# Altium footprint library analog-devices.PCBLIB: 79 footprints (part 4 of 6)
Each footprint in its own frame and in the unit in brackets; x right, y up, seen from the top. Pads: shape width x height; smd on the part's side, far side on the other; paste and mask are expansions set on the pad; w line width, h text height; cw(c..) or ccw(c..) is an arc to the next point about the centre after c.
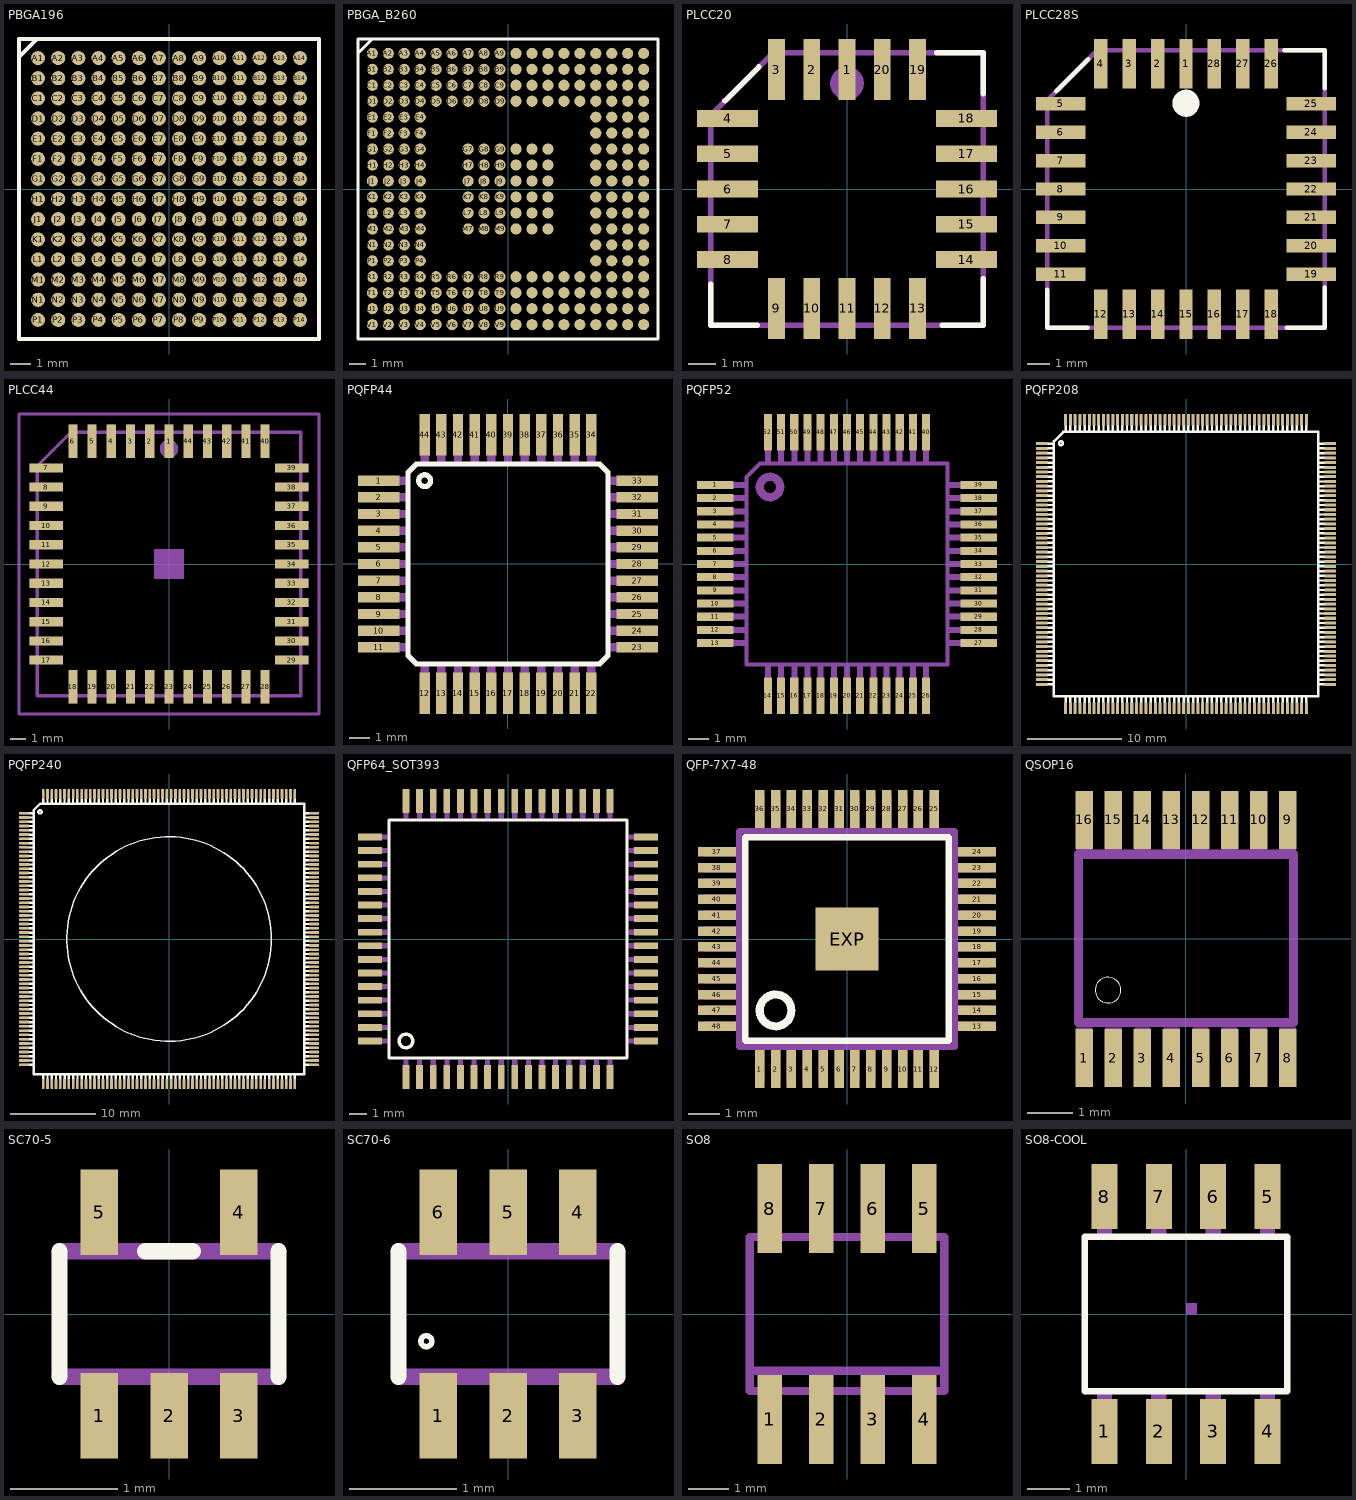
[diagram p3: the footprints below, top view; thin cyan lines are the x and y axes]

## PBGA196 [mm]
pads (196):
  rrect100% 0.7x0.7 smd: A1(-6.5,6.5) A2(-5.5,6.5) A3(-4.5,6.5) A4(-3.5,6.5) A5(-2.5,6.5) A6(-1.5,6.5) A7(-0.5,6.5) A8(0.5,6.5) A9(1.5,6.5) A10(2.5,6.5) A11(3.5,6.5) A12(4.5,6.5) A13(5.5,6.5) A14(6.5,6.5) B1(-6.5,5.5) B2(-5.5,5.5) B3(-4.5,5.5) B4(-3.5,5.5) B5(-2.5,5.5) B6(-1.5,5.5) B7(-0.5,5.5) B8(0.5,5.5) B9(1.5,5.5) B10(2.5,5.5) B11(3.5,5.5) B12(4.5,5.5) B13(5.5,5.5) B14(6.5,5.5) C1(-6.5,4.5) C2(-5.5,4.5) C3(-4.5,4.5) C4(-3.5,4.5) C5(-2.5,4.5) C6(-1.5,4.5) C7(-0.5,4.5) C8(0.5,4.5) C9(1.5,4.5) C10(2.5,4.5) C11(3.5,4.5) C12(4.5,4.5) C13(5.5,4.5) C14(6.5,4.5) D1(-6.5,3.5) D2(-5.5,3.5) D3(-4.5,3.5) D4(-3.5,3.5) D5(-2.5,3.5) D6(-1.5,3.5) D7(-0.5,3.5) D8(0.5,3.5) D9(1.5,3.5) D10(2.5,3.5) D11(3.5,3.5) D12(4.5,3.5) D13(5.5,3.5) D14(6.5,3.5) E1(-6.5,2.5) E2(-5.5,2.5) E3(-4.5,2.5) E4(-3.5,2.5) E5(-2.5,2.5) E6(-1.5,2.5) E7(-0.5,2.5) E8(0.5,2.5) E9(1.5,2.5) E10(2.5,2.5) E11(3.5,2.5) E12(4.5,2.5) E13(5.5,2.5) E14(6.5,2.5) F1(-6.5,1.5) F2(-5.5,1.5) F3(-4.5,1.5) F4(-3.5,1.5) F5(-2.5,1.5) F6(-1.5,1.5) F7(-0.5,1.5) F8(0.5,1.5) F9(1.5,1.5) F10(2.5,1.5) F11(3.5,1.5) F12(4.5,1.5) F13(5.5,1.5) F14(6.5,1.5) G1(-6.5,0.5) G2(-5.5,0.5) G3(-4.5,0.5) G4(-3.5,0.5) G5(-2.5,0.5) G6(-1.5,0.5) G7(-0.5,0.5) G8(0.5,0.5) G9(1.5,0.5) G10(2.5,0.5) G11(3.5,0.5) G12(4.5,0.5) G13(5.5,0.5) G14(6.5,0.5) H1(-6.5,-0.5) H2(-5.5,-0.5) H3(-4.5,-0.5) H4(-3.5,-0.5) H5(-2.5,-0.5) H6(-1.5,-0.5) H7(-0.5,-0.5) H8(0.5,-0.5) H9(1.5,-0.5) H10(2.5,-0.5) H11(3.5,-0.5) H12(4.5,-0.5) H13(5.5,-0.5) H14(6.5,-0.5) J1(-6.5,-1.5) J2(-5.5,-1.5) J3(-4.5,-1.5) J4(-3.5,-1.5) J5(-2.5,-1.5) J6(-1.5,-1.5) J7(-0.5,-1.5) J8(0.5,-1.5) J9(1.5,-1.5) J10(2.5,-1.5) J11(3.5,-1.5) J12(4.5,-1.5) J13(5.5,-1.5) J14(6.5,-1.5) K1(-6.5,-2.5) K2(-5.5,-2.5) K3(-4.5,-2.5) K4(-3.5,-2.5) K5(-2.5,-2.5) K6(-1.5,-2.5) K7(-0.5,-2.5) K8(0.5,-2.5) K9(1.5,-2.5) K10(2.5,-2.5) K11(3.5,-2.5) K12(4.5,-2.5) K13(5.5,-2.5) K14(6.5,-2.5) L1(-6.5,-3.5) L2(-5.5,-3.5) L3(-4.5,-3.5) L4(-3.5,-3.5) L5(-2.5,-3.5) L6(-1.5,-3.5) L7(-0.5,-3.5) L8(0.5,-3.5) L9(1.5,-3.5) L10(2.5,-3.5) L11(3.5,-3.5) L12(4.5,-3.5) L13(5.5,-3.5) L14(6.5,-3.5) M1(-6.5,-4.5) M2(-5.5,-4.5) M3(-4.5,-4.5) M4(-3.5,-4.5) M5(-2.5,-4.5) M6(-1.5,-4.5) M7(-0.5,-4.5) M8(0.5,-4.5) M9(1.5,-4.5) M10(2.5,-4.5) M11(3.5,-4.5) M12(4.5,-4.5) M13(5.5,-4.5) M14(6.5,-4.5) N1(-6.5,-5.5) N2(-5.5,-5.5) N3(-4.5,-5.5) N4(-3.5,-5.5) N5(-2.5,-5.5) N6(-1.5,-5.5) N7(-0.5,-5.5) N8(0.5,-5.5) N9(1.5,-5.5) N10(2.5,-5.5) N11(3.5,-5.5) N12(4.5,-5.5) N13(5.5,-5.5) N14(6.5,-5.5) P1(-6.5,-6.5) P2(-5.5,-6.5) P3(-4.5,-6.5) P4(-3.5,-6.5) P5(-2.5,-6.5) P6(-1.5,-6.5) P7(-0.5,-6.5) P8(0.5,-6.5) P9(1.5,-6.5) P10(2.5,-6.5) P11(3.5,-6.5) P12(4.5,-6.5) P13(5.5,-6.5) P14(6.5,-6.5)
Top Overlay:
  lines w0.203: -7.448,6.55 -7.448,7.448 -6.55,7.448 ; -7.448,6.55 -7.448,-7.448 7.448,-7.448 7.448,7.448 -6.55,7.448 ; -7.448,6.55 -6.55,7.448
Top Solder:
  drawing of 196 lines, arcs and shapes, not listed

## PBGA_B260 [mm]
pads (260):
  rrect100% 0.7x0.7 smd: A1(-8.5,8.5) A2(-7.5,8.5) A3(-6.5,8.5) A4(-5.5,8.5) A5(-4.5,8.5) A6(-3.5,8.5) A7(-2.5,8.5) A8(-1.5,8.5) A9(-0.5,8.5) A10(0.5,8.5) A11(1.5,8.5) A12(2.5,8.5) A13(3.5,8.5) A14(4.5,8.5) A15(5.5,8.5) A16(6.5,8.5) A17(7.5,8.5) A18(8.5,8.5) B1(-8.5,7.5) B2(-7.5,7.5) B3(-6.5,7.5) B4(-5.5,7.5) B5(-4.5,7.5) B6(-3.5,7.5) B7(-2.5,7.5) B8(-1.5,7.5) B9(-0.5,7.5) B10(0.5,7.5) B11(1.5,7.5) B12(2.5,7.5) B13(3.5,7.5) B14(4.5,7.5) B15(5.5,7.5) B16(6.5,7.5) B17(7.5,7.5) B18(8.5,7.5) C1(-8.5,6.5) C2(-7.5,6.5) C3(-6.5,6.5) C4(-5.5,6.5) C5(-4.5,6.5) C6(-3.5,6.5) C7(-2.5,6.5) C8(-1.5,6.5) C9(-0.5,6.5) C10(0.5,6.5) C11(1.5,6.5) C12(2.5,6.5) C13(3.5,6.5) C14(4.5,6.5) C15(5.5,6.5) C16(6.5,6.5) C17(7.5,6.5) C18(8.5,6.5) D1(-8.5,5.5) D2(-7.5,5.5) D3(-6.5,5.5) D4(-5.5,5.5) D5(-4.5,5.5) D6(-3.5,5.5) D7(-2.5,5.5) D8(-1.5,5.5) D9(-0.5,5.5) D10(0.5,5.5) D11(1.5,5.5) D12(2.5,5.5) D13(3.5,5.5) D14(4.5,5.5) D15(5.5,5.5) D16(6.5,5.5) D17(7.5,5.5) D18(8.5,5.5) E1(-8.5,4.5) E2(-7.5,4.5) E3(-6.5,4.5) E4(-5.5,4.5) E15(5.5,4.5) E16(6.5,4.5) E17(7.5,4.5) E18(8.5,4.5) F1(-8.5,3.5) F2(-7.5,3.5) F3(-6.5,3.5) F4(-5.5,3.5) F15(5.5,3.5) F16(6.5,3.5) F17(7.5,3.5) F18(8.5,3.5) G1(-8.5,2.5) G2(-7.5,2.5) G3(-6.5,2.5) G4(-5.5,2.5) G7(-2.5,2.5) G8(-1.5,2.5) G9(-0.5,2.5) G10(0.5,2.5) G11(1.5,2.5) G12(2.5,2.5) G15(5.5,2.5) G16(6.5,2.5) G17(7.5,2.5) G18(8.5,2.5) H1(-8.5,1.5) H2(-7.5,1.5) H3(-6.5,1.5) H4(-5.5,1.5) H7(-2.5,1.5) H8(-1.5,1.5) H9(-0.5,1.5) H10(0.5,1.5) H11(1.5,1.5) H12(2.5,1.5) H15(5.5,1.5) H16(6.5,1.5) H17(7.5,1.5) H18(8.5,1.5) J1(-8.5,0.5) J2(-7.5,0.5) J3(-6.5,0.5) J4(-5.5,0.5) J7(-2.5,0.5) J8(-1.5,0.5) J9(-0.5,0.5) J10(0.5,0.5) J11(1.5,0.5) J12(2.5,0.5) J15(5.5,0.5) J16(6.5,0.5) J17(7.5,0.5) J18(8.5,0.5) K1(-8.5,-0.5) K2(-7.5,-0.5) K3(-6.5,-0.5) K4(-5.5,-0.5) K7(-2.5,-0.5) K8(-1.5,-0.5) K9(-0.5,-0.5) K10(0.5,-0.5) K11(1.5,-0.5) K12(2.5,-0.5) K15(5.5,-0.5) K16(6.5,-0.5) K17(7.5,-0.5) K18(8.5,-0.5) L1(-8.5,-1.5) L2(-7.5,-1.5) L3(-6.5,-1.5) L4(-5.5,-1.5) L7(-2.5,-1.5) L8(-1.5,-1.5) L9(-0.5,-1.5) L10(0.5,-1.5) L11(1.5,-1.5) L12(2.5,-1.5) L15(5.5,-1.5) L16(6.5,-1.5) L17(7.5,-1.5) L18(8.5,-1.5) M1(-8.5,-2.5) M2(-7.5,-2.5) M3(-6.5,-2.5) M4(-5.5,-2.5) M7(-2.5,-2.5) M8(-1.5,-2.5) M9(-0.5,-2.5) M10(0.5,-2.5) M11(1.5,-2.5) M12(2.5,-2.5) M15(5.5,-2.5) M16(6.5,-2.5) M17(7.5,-2.5) M18(8.5,-2.5) N1(-8.5,-3.5) N2(-7.5,-3.5) N3(-6.5,-3.5) N4(-5.5,-3.5) N15(5.5,-3.5) N16(6.5,-3.5) N17(7.5,-3.5) N18(8.5,-3.5) P1(-8.5,-4.5) P2(-7.5,-4.5) P3(-6.5,-4.5) P4(-5.5,-4.5) P15(5.5,-4.5) P16(6.5,-4.5) P17(7.5,-4.5) P18(8.5,-4.5) R1(-8.5,-5.5) R2(-7.5,-5.5) R3(-6.5,-5.5) R4(-5.5,-5.5) R5(-4.5,-5.5) R6(-3.5,-5.5) R7(-2.5,-5.5) R8(-1.5,-5.5) R9(-0.5,-5.5) R10(0.5,-5.5) R11(1.5,-5.5) R12(2.5,-5.5) R13(3.5,-5.5) R14(4.5,-5.5) R15(5.5,-5.5) R16(6.5,-5.5) R17(7.5,-5.5) R18(8.5,-5.5) T1(-8.5,-6.5) T2(-7.5,-6.5) T3(-6.5,-6.5) T4(-5.5,-6.5) T5(-4.5,-6.5) T6(-3.5,-6.5) T7(-2.5,-6.5) T8(-1.5,-6.5) T9(-0.5,-6.5) T10(0.5,-6.5) T11(1.5,-6.5) T12(2.5,-6.5) T13(3.5,-6.5) T14(4.5,-6.5) T15(5.5,-6.5) T16(6.5,-6.5) T17(7.5,-6.5) T18(8.5,-6.5) U1(-8.5,-7.5) U2(-7.5,-7.5) U3(-6.5,-7.5) U4(-5.5,-7.5) U5(-4.5,-7.5) U6(-3.5,-7.5) U7(-2.5,-7.5) U8(-1.5,-7.5) U9(-0.5,-7.5) U10(0.5,-7.5) U11(1.5,-7.5) U12(2.5,-7.5) U13(3.5,-7.5) U14(4.5,-7.5) U15(5.5,-7.5) U16(6.5,-7.5) U17(7.5,-7.5) U18(8.5,-7.5) V1(-8.5,-8.5) V2(-7.5,-8.5) V3(-6.5,-8.5) V4(-5.5,-8.5) V5(-4.5,-8.5) V6(-3.5,-8.5) V7(-2.5,-8.5) V8(-1.5,-8.5) V9(-0.5,-8.5) V10(0.5,-8.5) V11(1.5,-8.5) V12(2.5,-8.5) V13(3.5,-8.5) V14(4.5,-8.5) V15(5.5,-8.5) V16(6.5,-8.5) V17(7.5,-8.5) V18(8.5,-8.5)
Top Overlay:
  lines w0.203: -9.399,8.5 -9.399,9.399 -8.5,9.399 ; -9.399,8.5 -9.399,-9.399 9.399,-9.399 9.399,9.399 -8.5,9.399 ; -9.399,8.5 -8.5,9.399
Top Solder:
  drawing of 260 lines, arcs and shapes, not listed

## PLCC20 [mm]
pads (20):
  rect 0.6x2.2 smd: 1(0,4.3) 2(-1.27,4.3) 3(-2.54,4.3) 9(-2.54,-4.3) 10(-1.27,-4.3) 11(0,-4.3) 12(1.27,-4.3) 13(2.54,-4.3) 19(2.54,4.3) 20(1.27,4.3)
  rect 2.2x0.6 smd: 4(-4.3,2.54) 5(-4.3,1.27) 6(-4.3,0) 7(-4.3,-1.27) 8(-4.3,-2.54) 14(4.3,-2.54) 15(4.3,-1.27) 16(4.3,0) 17(4.3,1.27) 18(4.3,2.54)
Top Overlay:
  lines w0.203: -4.9,-3.431 -4.9,-4.9 -3.228,-4.9 ; -4.392,3.173 -3.173,4.392 ; 3.228,4.9 4.9,4.9 4.9,3.431 ; 3.431,-4.9 4.9,-4.9 4.9,-3.228
Mechanical 16:
  circle w0.61: c0,3.8 r0.3
  rectangle: -0.26,4.95 0.26,5.4
  rectangle: -1.53,4.95 -1.01,5.4
  rectangle: -2.8,4.95 -2.28,5.4
  rectangle: -5.4,2.28 -4.95,2.8
  rectangle: -5.4,1.01 -4.95,1.53
  rectangle: -5.4,-0.26 -4.95,0.26
  rectangle: -5.4,-1.53 -4.95,-1.01
  rectangle: -5.4,-2.8 -4.95,-2.28
  rectangle: -2.8,-5.4 -2.28,-4.95
  rectangle: -1.53,-5.4 -1.01,-4.95
  rectangle: -0.26,-5.4 0.26,-4.95
  rectangle: 1.01,-5.4 1.53,-4.95
  rectangle: 2.28,-5.4 2.8,-4.95
  rectangle: 4.95,-2.8 5.4,-2.28
  rectangle: 4.95,-1.53 5.4,-1.01
  rectangle: 4.95,-0.26 5.4,0.26
  rectangle: 4.95,1.01 5.4,1.53
  rectangle: 4.95,2.28 5.4,2.8
  rectangle: 2.28,4.95 2.8,5.4
  rectangle: 1.01,4.95 1.53,5.4
  lines w0.203: -4.9,-4.9 -4.9,2.665 -2.665,4.9 4.9,4.9 4.9,-4.9 -4.9,-4.9

## PLCC28S [mm]
pads (28):
  rect 0.6x2.2 smd: 1(0,5.6) 2(-1.27,5.6) 3(-2.54,5.6) 4(-3.81,5.6) 12(-3.81,-5.6) 13(-2.54,-5.6) 14(-1.27,-5.6) 15(0,-5.6) 16(1.27,-5.6) 17(2.54,-5.6) 18(3.81,-5.6) 26(3.81,5.6) 27(2.54,5.6) 28(1.27,5.6)
  rect 2.2x0.6 smd: 5(-5.6,3.81) 6(-5.6,2.54) 7(-5.6,1.27) 8(-5.6,0) 9(-5.6,-1.27) 10(-5.6,-2.54) 11(-5.6,-3.81) 19(5.6,-3.81) 20(5.6,-2.54) 21(5.6,-1.27) 22(5.6,0) 23(5.6,1.27) 24(5.6,2.54) 25(5.6,3.81)
Top Overlay:
  circle w0.61: c0,3.83 r0.3
  lines w0.203: -6.2,-4.5 -6.2,-6.2 -4.4,-6.2 ; -5.8,4.365 -4.365,5.8 ; 4.4,6.2 6.2,6.2 6.2,4.5 ; 4.5,-6.2 6.2,-6.2 6.2,-4.4
Mechanical 16:
  rectangle: -0.26,6.25 0.26,6.7
  rectangle: -1.53,6.25 -1.01,6.7
  rectangle: -2.8,6.25 -2.28,6.7
  rectangle: -4.07,6.25 -3.55,6.7
  rectangle: -6.7,3.55 -6.25,4.07
  rectangle: -6.7,2.28 -6.25,2.8
  rectangle: -6.7,1.01 -6.25,1.53
  rectangle: -6.7,-0.26 -6.25,0.26
  rectangle: -6.7,-1.53 -6.25,-1.01
  rectangle: -6.7,-2.8 -6.25,-2.28
  rectangle: -6.7,-4.07 -6.25,-3.55
  rectangle: -4.07,-6.7 -3.55,-6.25
  rectangle: -2.8,-6.7 -2.28,-6.25
  rectangle: -1.53,-6.7 -1.01,-6.25
  rectangle: -0.26,-6.7 0.26,-6.25
  rectangle: 1.01,-6.7 1.53,-6.25
  rectangle: 2.28,-6.7 2.8,-6.25
  rectangle: 3.55,-6.7 4.07,-6.25
  rectangle: 6.25,-4.07 6.7,-3.55
  rectangle: 6.25,-2.8 6.7,-2.28
  rectangle: 6.25,-1.53 6.7,-1.01
  rectangle: 6.25,-0.26 6.7,0.26
  rectangle: 6.25,1.01 6.7,1.53
  rectangle: 6.25,2.28 6.7,2.8
  rectangle: 6.25,3.55 6.7,4.07
  rectangle: 3.55,6.25 4.07,6.7
  rectangle: 2.28,6.25 2.8,6.7
  rectangle: 1.01,6.25 1.53,6.7
  lines w0.203: -6.2,-6.2 -6.2,3.965 -3.965,6.2 6.2,6.2 6.2,-6.2 -6.2,-6.2

## PLCC44 [mm]
pads (44):
  rect 0.6x2.2 smd: 1(0,8.1) 2(-1.27,8.1) 3(-2.54,8.1) 4(-3.81,8.1) 5(-5.08,8.1) 6(-6.35,8.1) 18(-6.35,-8.1) 19(-5.08,-8.1) 20(-3.81,-8.1) 21(-2.54,-8.1) 22(-1.27,-8.1) 23(0,-8.1) 24(1.27,-8.1) 25(2.54,-8.1) 26(3.81,-8.1) 27(5.08,-8.1) 28(6.35,-8.1) 40(6.35,8.1) 41(5.08,8.1) 42(3.81,8.1) 43(2.54,8.1) 44(1.27,8.1)
  rect 2.2x0.6 smd: 7(-8.1,6.35) 8(-8.1,5.08) 9(-8.1,3.81) 10(-8.1,2.54) 11(-8.1,1.27) 12(-8.1,0) 13(-8.1,-1.27) 14(-8.1,-2.54) 15(-8.1,-3.81) 16(-8.1,-5.08) 17(-8.1,-6.35) 29(8.1,-6.35) 30(8.1,-5.08) 31(8.1,-3.81) 32(8.1,-2.54) 33(8.1,-1.27) 34(8.1,0) 35(8.1,1.27) 36(8.1,2.54) 37(8.1,3.81) 38(8.1,5.08) 39(8.1,6.35)
Mechanical 6:
  rectangle: -1,-1 1,1
Mechanical 16:
  circle w0.61: c0,7.6 r0.3
  rectangle: -0.26,8.75 0.26,9.2
  rectangle: -1.53,8.75 -1.01,9.2
  rectangle: -2.8,8.75 -2.28,9.2
  rectangle: -4.07,8.75 -3.55,9.2
  rectangle: -5.34,8.75 -4.82,9.2
  rectangle: -6.61,8.75 -6.09,9.2
  rectangle: -9.2,6.09 -8.75,6.61
  rectangle: -9.2,4.82 -8.75,5.34
  rectangle: -9.2,3.55 -8.75,4.07
  rectangle: -9.2,2.28 -8.75,2.8
  rectangle: -9.2,1.01 -8.75,1.53
  rectangle: -9.2,-0.26 -8.75,0.26
  rectangle: -9.2,-1.53 -8.75,-1.01
  rectangle: -9.2,-2.8 -8.75,-2.28
  rectangle: -9.2,-4.07 -8.75,-3.55
  rectangle: -9.2,-5.34 -8.75,-4.82
  rectangle: -9.2,-6.61 -8.75,-6.09
  rectangle: -6.61,-9.2 -6.09,-8.75
  rectangle: -5.34,-9.2 -4.82,-8.75
  rectangle: -4.07,-9.2 -3.55,-8.75
  rectangle: -2.8,-9.2 -2.28,-8.75
  rectangle: -1.53,-9.2 -1.01,-8.75
  rectangle: -0.26,-9.2 0.26,-8.75
  rectangle: 1.01,-9.2 1.53,-8.75
  rectangle: 2.28,-9.2 2.8,-8.75
  rectangle: 3.55,-9.2 4.07,-8.75
  rectangle: 4.82,-9.2 5.34,-8.75
  rectangle: 6.09,-9.2 6.61,-8.75
  rectangle: 8.75,-6.61 9.2,-6.09
  rectangle: 8.75,-5.34 9.2,-4.82
  rectangle: 8.75,-4.07 9.2,-3.55
  rectangle: 8.75,-2.8 9.2,-2.28
  rectangle: 8.75,-1.53 9.2,-1.01
  rectangle: 8.75,-0.26 9.2,0.26
  rectangle: 8.75,1.01 9.2,1.53
  rectangle: 8.75,2.28 9.2,2.8
  rectangle: 8.75,3.55 9.2,4.07
  rectangle: 8.75,4.82 9.2,5.34
  rectangle: 8.75,6.09 9.2,6.61
  rectangle: 6.09,8.75 6.61,9.2
  rectangle: 4.82,8.75 5.34,9.2
  rectangle: 3.55,8.75 4.07,9.2
  rectangle: 2.28,8.75 2.8,9.2
  rectangle: 1.01,8.75 1.53,9.2
  lines w0.203: -8.7,-8.7 -8.7,6.465 -6.465,8.7 8.7,8.7 8.7,-8.7 -8.7,-8.7
  text "IPC PLCC-44 Suare" at -5.96,4.27 h0.94
Mechanical 27:
  lines w0.2: -9.903,-9.903 9.903,-9.903 9.903,9.903 -9.903,9.903 -9.903,-9.903

## PQFP44 [mm]
pads (44):
  rect 2x0.5 smd: 1(-6.2,4) 2(-6.2,3.2) 3(-6.2,2.4) 4(-6.2,1.6) 5(-6.2,0.8) 6(-6.2,0) 7(-6.2,-0.8) 8(-6.2,-1.6) 9(-6.2,-2.4) 10(-6.2,-3.2) 11(-6.2,-4) 23(6.2,-4) 24(6.2,-3.2) 25(6.2,-2.4) 26(6.2,-1.6) 27(6.2,-0.8) 28(6.2,0) 29(6.2,0.8) 30(6.2,1.6) 31(6.2,2.4) 32(6.2,3.2) 33(6.2,4)
  rect 0.5x2 smd: 12(-4,-6.2) 13(-3.2,-6.2) 14(-2.4,-6.2) 15(-1.6,-6.2) 16(-0.8,-6.2) 17(0,-6.2) 18(0.8,-6.2) 19(1.6,-6.2) 20(2.4,-6.2) 21(3.2,-6.2) 22(4,-6.2) 34(4,6.2) 35(3.2,6.2) 36(2.4,6.2) 37(1.6,6.2) 38(0.8,6.2) 39(0,6.2) 40(-0.8,6.2) 41(-1.6,6.2) 42(-2.4,6.2) 43(-3.2,6.2) 44(-4,6.2)
Top Overlay:
  circle w0.254: c-4,4 r0.283
  lines w0.254: -4.8,-4.4 -4.4,-4.8 4.4,-4.8 4.8,-4.4 4.8,4.4 4.4,4.8 -4.4,4.8 -4.8,4.4 -4.8,-4.4
Mechanical 16:
  rectangle: -6.7,3.8 -4.9,4.2
  rectangle: -6.7,3 -4.9,3.4
  rectangle: -6.7,2.2 -4.9,2.6
  rectangle: -6.7,1.4 -4.9,1.8
  rectangle: -6.7,0.6 -4.9,1
  rectangle: -6.7,-0.2 -4.9,0.2
  rectangle: -6.7,-1 -4.9,-0.6
  rectangle: -6.7,-1.8 -4.9,-1.4
  rectangle: -6.7,-2.6 -4.9,-2.2
  rectangle: -6.7,-3.4 -4.9,-3
  rectangle: -6.7,-4.2 -4.9,-3.8
  rectangle: -4.2,-6.7 -3.8,-4.9
  rectangle: -3.4,-6.7 -3,-4.9
  rectangle: -2.6,-6.7 -2.2,-4.9
  rectangle: -1.8,-6.7 -1.4,-4.9
  rectangle: -1,-6.7 -0.6,-4.9
  rectangle: -0.2,-6.7 0.2,-4.9
  rectangle: 0.6,-6.7 1,-4.9
  rectangle: 1.4,-6.7 1.8,-4.9
  rectangle: 2.2,-6.7 2.6,-4.9
  rectangle: 3,-6.7 3.4,-4.9
  rectangle: 3.8,-6.7 4.2,-4.9
  rectangle: 4.9,-4.2 6.7,-3.8
  rectangle: 4.9,-3.4 6.7,-3
  rectangle: 4.9,-2.6 6.7,-2.2
  rectangle: 4.9,-1.8 6.7,-1.4
  rectangle: 4.9,-1 6.7,-0.6
  rectangle: 4.9,-0.2 6.7,0.2
  rectangle: 4.9,0.6 6.7,1
  rectangle: 4.9,1.4 6.7,1.8
  rectangle: 4.9,2.2 6.7,2.6
  rectangle: 4.9,3 6.7,3.4
  rectangle: 4.9,3.8 6.7,4.2
  rectangle: 3.8,4.9 4.2,6.7
  rectangle: 3,4.9 3.4,6.7
  rectangle: 2.2,4.9 2.6,6.7
  rectangle: 1.4,4.9 1.8,6.7
  rectangle: 0.6,4.9 1,6.7
  rectangle: -0.2,4.9 0.2,6.7
  rectangle: -1,4.9 -0.6,6.7
  rectangle: -1.8,4.9 -1.4,6.7
  rectangle: -2.6,4.9 -2.2,6.7
  rectangle: -3.4,4.9 -3,6.7
  rectangle: -4.2,4.9 -3.8,6.7
  text "PQFP-44" at -2.785,-3.985 h0.94

## PQFP52 [mm]
pads (52):
  rect 1.8x0.4 smd: 1(-6.5,3.9) 2(-6.5,3.25) 3(-6.5,2.6) 4(-6.5,1.95) 5(-6.5,1.3) 6(-6.5,0.65) 7(-6.5,0) 8(-6.5,-0.65) 9(-6.5,-1.3) 10(-6.5,-1.95) 11(-6.5,-2.6) 12(-6.5,-3.25) 13(-6.5,-3.9) 27(6.5,-3.9) 28(6.5,-3.25) 29(6.5,-2.6) 30(6.5,-1.95) 31(6.5,-1.3) 32(6.5,-0.65) 33(6.5,0) 34(6.5,0.65) 35(6.5,1.3) 36(6.5,1.95) 37(6.5,2.6) 38(6.5,3.25) 39(6.5,3.9)
  rect 0.4x1.8 smd: 14(-3.9,-6.5) 15(-3.25,-6.5) 16(-2.6,-6.5) 17(-1.95,-6.5) 18(-1.3,-6.5) 19(-0.65,-6.5) 20(0,-6.5) 21(0.65,-6.5) 22(1.3,-6.5) 23(1.95,-6.5) 24(2.6,-6.5) 25(3.25,-6.5) 26(3.9,-6.5) 40(3.9,6.5) 41(3.25,6.5) 42(2.6,6.5) 43(1.95,6.5) 44(1.3,6.5) 45(0.65,6.5) 46(0,6.5) 47(-0.65,6.5) 48(-1.3,6.5) 49(-1.95,6.5) 50(-2.6,6.5) 51(-3.25,6.5) 52(-3.9,6.5)
Mechanical 16:
  circle w0.406: c-3.8,3.8 r0.502
  rectangle: -7.1,3.75 -5.05,4.05
  rectangle: -7.1,3.1 -5.05,3.4
  rectangle: -7.1,2.45 -5.05,2.75
  rectangle: -7.1,1.8 -5.05,2.1
  rectangle: -7.1,1.15 -5.05,1.45
  rectangle: -7.1,0.5 -5.05,0.8
  rectangle: -7.1,-0.15 -5.05,0.15
  rectangle: -7.1,-0.8 -5.05,-0.5
  rectangle: -7.1,-1.45 -5.05,-1.15
  rectangle: -7.1,-2.1 -5.05,-1.8
  rectangle: -7.1,-2.75 -5.05,-2.45
  rectangle: -7.1,-3.4 -5.05,-3.1
  rectangle: -7.1,-4.05 -5.05,-3.75
  rectangle: -4.05,-7.1 -3.75,-5.05
  rectangle: -3.4,-7.1 -3.1,-5.05
  rectangle: -2.75,-7.1 -2.45,-5.05
  rectangle: -2.1,-7.1 -1.8,-5.05
  rectangle: -1.45,-7.1 -1.15,-5.05
  rectangle: -0.8,-7.1 -0.5,-5.05
  rectangle: -0.15,-7.1 0.15,-5.05
  rectangle: 0.5,-7.1 0.8,-5.05
  rectangle: 1.15,-7.1 1.45,-5.05
  rectangle: 1.8,-7.1 2.1,-5.05
  rectangle: 2.45,-7.1 2.75,-5.05
  rectangle: 3.1,-7.1 3.4,-5.05
  rectangle: 3.75,-7.1 4.05,-5.05
  rectangle: 5.05,-4.05 7.1,-3.75
  rectangle: 5.05,-3.4 7.1,-3.1
  rectangle: 5.05,-2.75 7.1,-2.45
  rectangle: 5.05,-2.1 7.1,-1.8
  rectangle: 5.05,-1.45 7.1,-1.15
  rectangle: 5.05,-0.8 7.1,-0.5
  rectangle: 5.05,-0.15 7.1,0.15
  rectangle: 5.05,0.5 7.1,0.8
  rectangle: 5.05,1.15 7.1,1.45
  rectangle: 5.05,1.8 7.1,2.1
  rectangle: 5.05,2.45 7.1,2.75
  rectangle: 5.05,3.1 7.1,3.4
  rectangle: 5.05,3.75 7.1,4.05
  rectangle: 3.75,5.05 4.05,7.1
  rectangle: 3.1,5.05 3.4,7.1
  rectangle: 2.45,5.05 2.75,7.1
  rectangle: 1.8,5.05 2.1,7.1
  rectangle: 1.15,5.05 1.45,7.1
  rectangle: 0.5,5.05 0.8,7.1
  rectangle: -0.15,5.05 0.15,7.1
  rectangle: -0.8,5.05 -0.5,7.1
  rectangle: -1.45,5.05 -1.15,7.1
  rectangle: -2.1,5.05 -1.8,7.1
  rectangle: -2.75,5.05 -2.45,7.1
  rectangle: -3.4,5.05 -3.1,7.1
  rectangle: -4.05,5.05 -3.75,7.1
  lines w0.203: -4.95,-4.95 4.95,-4.95 4.95,4.95 -4.3,4.95 -4.95,4.3 -4.95,-4.95

## PQFP208 [mm]
pads (208):
  rect 1.2x0.32 smd: 1(-15.3,12.75) 2(-15.3,12.25) 3(-15.3,11.75) 4(-15.3,11.25) 5(-15.3,10.75) 6(-15.3,10.25) 7(-15.3,9.75) 8(-15.3,9.25) 9(-15.3,8.75) 10(-15.3,8.25) 11(-15.3,7.75) 12(-15.3,7.25) 13(-15.3,6.75) 14(-15.3,6.25) 15(-15.3,5.75) 16(-15.3,5.25) 17(-15.3,4.75) 18(-15.3,4.25) 19(-15.3,3.75) 20(-15.3,3.25) 21(-15.3,2.75) 22(-15.3,2.25) 23(-15.3,1.75) 24(-15.3,1.25) 25(-15.3,0.75) 26(-15.3,0.25) 27(-15.3,-0.25) 28(-15.3,-0.75) 29(-15.3,-1.25) 30(-15.3,-1.75) 31(-15.3,-2.25) 32(-15.3,-2.75) 33(-15.3,-3.25) 34(-15.3,-3.75) 35(-15.3,-4.25) 36(-15.3,-4.75) 37(-15.3,-5.25) 38(-15.3,-5.75) 39(-15.3,-6.25) 40(-15.3,-6.75) 41(-15.3,-7.25) 42(-15.3,-7.75) 43(-15.3,-8.25) 44(-15.3,-8.75) 45(-15.3,-9.25) 46(-15.3,-9.75) 47(-15.3,-10.25) 48(-15.3,-10.75) 49(-15.3,-11.25) 50(-15.3,-11.75) 51(-15.3,-12.25) 52(-15.3,-12.75) 105(15.3,-12.75) 106(15.3,-12.25) 107(15.3,-11.75) 108(15.3,-11.25) 109(15.3,-10.75) 110(15.3,-10.25) 111(15.3,-9.75) 112(15.3,-9.25) 113(15.3,-8.75) 114(15.3,-8.25) 115(15.3,-7.75) 116(15.3,-7.25) 117(15.3,-6.75) 118(15.3,-6.25) 119(15.3,-5.75) 120(15.3,-5.25) 121(15.3,-4.75) 122(15.3,-4.25) 123(15.3,-3.75) 124(15.3,-3.25) 125(15.3,-2.75) 126(15.3,-2.25) 127(15.3,-1.75) 128(15.3,-1.25) 129(15.3,-0.75) 130(15.3,-0.25) 131(15.3,0.25) 132(15.3,0.75) 133(15.3,1.25) 134(15.3,1.75) 135(15.3,2.25) 136(15.3,2.75) 137(15.3,3.25) 138(15.3,3.75) 139(15.3,4.25) 140(15.3,4.75) 141(15.3,5.25) 142(15.3,5.75) 143(15.3,6.25) 144(15.3,6.75) 145(15.3,7.25) 146(15.3,7.75) 147(15.3,8.25) 148(15.3,8.75) 149(15.3,9.25) 150(15.3,9.75) 151(15.3,10.25) 152(15.3,10.75) 153(15.3,11.25) 154(15.3,11.75) 155(15.3,12.25) 156(15.3,12.75)
  rect 0.32x1.2 smd: 53(-12.75,-15.3) 54(-12.25,-15.3) 55(-11.75,-15.3) 56(-11.25,-15.3) 57(-10.75,-15.3) 58(-10.25,-15.3) 59(-9.75,-15.3) 60(-9.25,-15.3) 61(-8.75,-15.3) 62(-8.25,-15.3) 63(-7.75,-15.3) 64(-7.25,-15.3) 65(-6.75,-15.3) 66(-6.25,-15.3) 67(-5.75,-15.3) 68(-5.25,-15.3) 69(-4.75,-15.3) 70(-4.25,-15.3) 71(-3.75,-15.3) 72(-3.25,-15.3) 73(-2.75,-15.3) 74(-2.25,-15.3) 75(-1.75,-15.3) 76(-1.25,-15.3) 77(-0.75,-15.3) 78(-0.25,-15.3) 79(0.25,-15.3) 80(0.75,-15.3) 81(1.25,-15.3) 82(1.75,-15.3) 83(2.25,-15.3) 84(2.75,-15.3) 85(3.25,-15.3) 86(3.75,-15.3) 87(4.25,-15.3) 88(4.75,-15.3) 89(5.25,-15.3) 90(5.75,-15.3) 91(6.25,-15.3) 92(6.75,-15.3) 93(7.25,-15.3) 94(7.75,-15.3) 95(8.25,-15.3) 96(8.75,-15.3) 97(9.25,-15.3) 98(9.75,-15.3) 99(10.25,-15.3) 100(10.75,-15.3) 101(11.25,-15.3) 102(11.75,-15.3) 103(12.25,-15.3) 104(12.75,-15.3) 157(12.75,15.3) 158(12.25,15.3) 159(11.75,15.3) 160(11.25,15.3) 161(10.75,15.3) 162(10.25,15.3) 163(9.75,15.3) 164(9.25,15.3) 165(8.75,15.3) 166(8.25,15.3) 167(7.75,15.3) 168(7.25,15.3) 169(6.75,15.3) 170(6.25,15.3) 171(5.75,15.3) 172(5.25,15.3) 173(4.75,15.3) 174(4.25,15.3) 175(3.75,15.3) 176(3.25,15.3) 177(2.75,15.3) 178(2.25,15.3) 179(1.75,15.3) 180(1.25,15.3) 181(0.75,15.3) 182(0.25,15.3) 183(-0.25,15.3) 184(-0.75,15.3) 185(-1.25,15.3) 186(-1.75,15.3) 187(-2.25,15.3) 188(-2.75,15.3) 189(-3.25,15.3) 190(-3.75,15.3) 191(-4.25,15.3) 192(-4.75,15.3) 193(-5.25,15.3) 194(-5.75,15.3) 195(-6.25,15.3) 196(-6.75,15.3) 197(-7.25,15.3) 198(-7.75,15.3) 199(-8.25,15.3) 200(-8.75,15.3) 201(-9.25,15.3) 202(-9.75,15.3) 203(-10.25,15.3) 204(-10.75,15.3) 205(-11.25,15.3) 206(-11.75,15.3) 207(-12.25,15.3) 208(-12.75,15.3)
Top Overlay:
  drawing of 214 lines, arcs and shapes, not listed
Mechanical 13:
  text "Analog Devices PQFP 208" at -13.47,-13.47 h1.26
Mechanical 16:
  drawing of 208 lines, arcs and shapes, not listed

## PQFP240 [mm]
pads (240):
  rect 1.2x0.32 smd: 1(-17,14.75) 2(-17,14.25) 3(-17,13.75) 4(-17,13.25) 5(-17,12.75) 6(-17,12.25) 7(-17,11.75) 8(-17,11.25) 9(-17,10.75) 10(-17,10.25) 11(-17,9.75) 12(-17,9.25) 13(-17,8.75) 14(-17,8.25) 15(-17,7.75) 16(-17,7.25) 17(-17,6.75) 18(-17,6.25) 19(-17,5.75) 20(-17,5.25) 21(-17,4.75) 22(-17,4.25) 23(-17,3.75) 24(-17,3.25) 25(-17,2.75) 26(-17,2.25) 27(-17,1.75) 28(-17,1.25) 29(-17,0.75) 30(-17,0.25) 31(-17,-0.25) 32(-17,-0.75) 33(-17,-1.25) 34(-17,-1.75) 35(-17,-2.25) 36(-17,-2.75) 37(-17,-3.25) 38(-17,-3.75) 39(-17,-4.25) 40(-17,-4.75) 41(-17,-5.25) 42(-17,-5.75) 43(-17,-6.25) 44(-17,-6.75) 45(-17,-7.25) 46(-17,-7.75) 47(-17,-8.25) 48(-17,-8.75) 49(-17,-9.25) 50(-17,-9.75) 51(-17,-10.25) 52(-17,-10.75) 53(-17,-11.25) 54(-17,-11.75) 55(-17,-12.25) 56(-17,-12.75) 57(-17,-13.25) 58(-17,-13.75) 59(-17,-14.25) 60(-17,-14.75) 121(17,-14.75) 122(17,-14.25) 123(17,-13.75) 124(17,-13.25) 125(17,-12.75) 126(17,-12.25) 127(17,-11.75) 128(17,-11.25) 129(17,-10.75) 130(17,-10.25) 131(17,-9.75) 132(17,-9.25) 133(17,-8.75) 134(17,-8.25) 135(17,-7.75) 136(17,-7.25) 137(17,-6.75) 138(17,-6.25) 139(17,-5.75) 140(17,-5.25) 141(17,-4.75) 142(17,-4.25) 143(17,-3.75) 144(17,-3.25) 145(17,-2.75) 146(17,-2.25) 147(17,-1.75) 148(17,-1.25) 149(17,-0.75) 150(17,-0.25) 151(17,0.25) 152(17,0.75) 153(17,1.25) 154(17,1.75) 155(17,2.25) 156(17,2.75) 157(17,3.25) 158(17,3.75) 159(17,4.25) 160(17,4.75) 161(17,5.25) 162(17,5.75) 163(17,6.25) 164(17,6.75) 165(17,7.25) 166(17,7.75) 167(17,8.25) 168(17,8.75) 169(17,9.25) 170(17,9.75) 171(17,10.25) 172(17,10.75) 173(17,11.25) 174(17,11.75) 175(17,12.25) 176(17,12.75) 177(17,13.25) 178(17,13.75) 179(17,14.25) 180(17,14.75)
  rect 0.32x1.2 smd: 61(-14.75,-17) 62(-14.25,-17) 63(-13.75,-17) 64(-13.25,-17) 65(-12.75,-17) 66(-12.25,-17) 67(-11.75,-17) 68(-11.25,-17) 69(-10.75,-17) 70(-10.25,-17) 71(-9.75,-17) 72(-9.25,-17) 73(-8.75,-17) 74(-8.25,-17) 75(-7.75,-17) 76(-7.25,-17) 77(-6.75,-17) 78(-6.25,-17) 79(-5.75,-17) 80(-5.25,-17) 81(-4.75,-17) 82(-4.25,-17) 83(-3.75,-17) 84(-3.25,-17) 85(-2.75,-17) 86(-2.25,-17) 87(-1.75,-17) 88(-1.25,-17) 89(-0.75,-17) 90(-0.25,-17) 91(0.25,-17) 92(0.75,-17) 93(1.25,-17) 94(1.75,-17) 95(2.25,-17) 96(2.75,-17) 97(3.25,-17) 98(3.75,-17) 99(4.25,-17) 100(4.75,-17) 101(5.25,-17) 102(5.75,-17) 103(6.25,-17) 104(6.75,-17) 105(7.25,-17) 106(7.75,-17) 107(8.25,-17) 108(8.75,-17) 109(9.25,-17) 110(9.75,-17) 111(10.25,-17) 112(10.75,-17) 113(11.25,-17) 114(11.75,-17) 115(12.25,-17) 116(12.75,-17) 117(13.25,-17) 118(13.75,-17) 119(14.25,-17) 120(14.75,-17) 181(14.75,17) 182(14.25,17) 183(13.75,17) 184(13.25,17) 185(12.75,17) 186(12.25,17) 187(11.75,17) 188(11.25,17) 189(10.75,17) 190(10.25,17) 191(9.75,17) 192(9.25,17) 193(8.75,17) 194(8.25,17) 195(7.75,17) 196(7.25,17) 197(6.75,17) 198(6.25,17) 199(5.75,17) 200(5.25,17) 201(4.75,17) 202(4.25,17) 203(3.75,17) 204(3.25,17) 205(2.75,17) 206(2.25,17) 207(1.75,17) 208(1.25,17) 209(0.75,17) 210(0.25,17) 211(-0.25,17) 212(-0.75,17) 213(-1.25,17) 214(-1.75,17) 215(-2.25,17) 216(-2.75,17) 217(-3.25,17) 218(-3.75,17) 219(-4.25,17) 220(-4.75,17) 221(-5.25,17) 222(-5.75,17) 223(-6.25,17) 224(-6.75,17) 225(-7.25,17) 226(-7.75,17) 227(-8.25,17) 228(-8.75,17) 229(-9.25,17) 230(-9.75,17) 231(-10.25,17) 232(-10.75,17) 233(-11.25,17) 234(-11.75,17) 235(-12.25,17) 236(-12.75,17) 237(-13.25,17) 238(-13.75,17) 239(-14.25,17) 240(-14.75,17)
Top Overlay:
  drawing of 247 lines, arcs and shapes, not listed
Mechanical 13:
  text "Analog Devices PQFP 240" at -13.97,-13.97 h1.26
Mechanical 16:
  drawing of 240 lines, arcs and shapes, not listed

## QFP64_SOT393 [mm]
pads (64):
  rect 0.4x1.4 smd: 1(-6,-8.125) 2(-5.2,-8.125) 3(-4.4,-8.125) 4(-3.6,-8.125) 5(-2.8,-8.125) 6(-2,-8.125) 7(-1.2,-8.125) 8(-0.4,-8.125) 9(0.4,-8.125) 10(1.2,-8.125) 11(2,-8.125) 12(2.8,-8.125) 13(3.6,-8.125) 14(4.4,-8.125) 15(5.2,-8.125) 16(6,-8.125) 33(6,8.125) 34(5.2,8.125) 35(4.4,8.125) 36(3.6,8.125) 37(2.8,8.125) 38(2,8.125) 39(1.2,8.125) 40(0.4,8.125) 41(-0.4,8.125) 42(-1.2,8.125) 43(-2,8.125) 44(-2.8,8.125) 45(-3.6,8.125) 46(-4.4,8.125) 47(-5.2,8.125) 48(-6,8.125)
  rect 1.4x0.4 smd: 17(8.125,-6) 18(8.125,-5.2) 19(8.125,-4.4) 20(8.125,-3.6) 21(8.125,-2.8) 22(8.125,-2) 23(8.125,-1.2) 24(8.125,-0.4) 25(8.125,0.4) 26(8.125,1.2) 27(8.125,2) 28(8.125,2.8) 29(8.125,3.6) 30(8.125,4.4) 31(8.125,5.2) 32(8.125,6) 49(-8.125,6) 50(-8.125,5.2) 51(-8.125,4.4) 52(-8.125,3.6) 53(-8.125,2.8) 54(-8.125,2) 55(-8.125,1.2) 56(-8.125,0.4) 57(-8.125,-0.4) 58(-8.125,-1.2) 59(-8.125,-2) 60(-8.125,-2.8) 61(-8.125,-3.6) 62(-8.125,-4.4) 63(-8.125,-5.2) 64(-8.125,-6)
Top Overlay:
  circle w0.203: c-6,-6 r0.4
  lines w0.203: -7,-7 7,-7 7,7 -7,7 -7,-7
Mechanical 16:
  rectangle: -6.15,-8.6 -5.85,-7.075
  rectangle: -5.35,-8.6 -5.05,-7.075
  rectangle: -4.55,-8.6 -4.25,-7.075
  rectangle: -3.75,-8.6 -3.45,-7.075
  rectangle: -2.95,-8.6 -2.65,-7.075
  rectangle: -2.15,-8.6 -1.85,-7.075
  rectangle: -1.35,-8.6 -1.05,-7.075
  rectangle: -0.55,-8.6 -0.25,-7.075
  rectangle: 0.25,-8.6 0.55,-7.075
  rectangle: 1.05,-8.6 1.35,-7.075
  rectangle: 1.85,-8.6 2.15,-7.075
  rectangle: 2.65,-8.6 2.95,-7.075
  rectangle: 3.45,-8.6 3.75,-7.075
  rectangle: 4.25,-8.6 4.55,-7.075
  rectangle: 5.05,-8.6 5.35,-7.075
  rectangle: 5.85,-8.6 6.15,-7.075
  rectangle: 7.075,-6.15 8.6,-5.85
  rectangle: 7.075,-5.35 8.6,-5.05
  rectangle: 7.075,-4.55 8.6,-4.25
  rectangle: 7.075,-3.75 8.6,-3.45
  rectangle: 7.075,-2.95 8.6,-2.65
  rectangle: 7.075,-2.15 8.6,-1.85
  rectangle: 7.075,-1.35 8.6,-1.05
  rectangle: 7.075,-0.55 8.6,-0.25
  rectangle: 7.075,0.25 8.6,0.55
  rectangle: 7.075,1.05 8.6,1.35
  rectangle: 7.075,1.85 8.6,2.15
  rectangle: 7.075,2.65 8.6,2.95
  rectangle: 7.075,3.45 8.6,3.75
  rectangle: 7.075,4.25 8.6,4.55
  rectangle: 7.075,5.05 8.6,5.35
  rectangle: 7.075,5.85 8.6,6.15
  rectangle: 5.85,7.075 6.15,8.6
  rectangle: 5.05,7.075 5.35,8.6
  rectangle: 4.25,7.075 4.55,8.6
  rectangle: 3.45,7.075 3.75,8.6
  rectangle: 2.65,7.075 2.95,8.6
  rectangle: 1.85,7.075 2.15,8.6
  rectangle: 1.05,7.075 1.35,8.6
  rectangle: 0.25,7.075 0.55,8.6
  rectangle: -0.55,7.075 -0.25,8.6
  rectangle: -1.35,7.075 -1.05,8.6
  rectangle: -2.15,7.075 -1.85,8.6
  rectangle: -2.95,7.075 -2.65,8.6
  rectangle: -3.75,7.075 -3.45,8.6
  rectangle: -4.55,7.075 -4.25,8.6
  rectangle: -5.35,7.075 -5.05,8.6
  rectangle: -6.15,7.075 -5.85,8.6
  rectangle: -8.6,5.85 -7.075,6.15
  rectangle: -8.6,5.05 -7.075,5.35
  rectangle: -8.6,4.25 -7.075,4.55
  rectangle: -8.6,3.45 -7.075,3.75
  rectangle: -8.6,2.65 -7.075,2.95
  rectangle: -8.6,1.85 -7.075,2.15
  rectangle: -8.6,1.05 -7.075,1.35
  rectangle: -8.6,0.25 -7.075,0.55
  rectangle: -8.6,-0.55 -7.075,-0.25
  rectangle: -8.6,-1.35 -7.075,-1.05
  rectangle: -8.6,-2.15 -7.075,-1.85
  rectangle: -8.6,-2.95 -7.075,-2.65
  rectangle: -8.6,-3.75 -7.075,-3.45
  rectangle: -8.6,-4.55 -7.075,-4.25
  rectangle: -8.6,-5.35 -7.075,-5.05
  rectangle: -8.6,-6.15 -7.075,-5.85

## QFP-7X7-48 [mm]
pads (49):
  rect 0.3x1.2 smd: 1(-2.75,-4.1) 2(-2.25,-4.1) 3(-1.75,-4.1) 4(-1.25,-4.1) 5(-0.75,-4.1) 6(-0.25,-4.1) 7(0.25,-4.1) 8(0.75,-4.1) 9(1.25,-4.1) 10(1.75,-4.1) 11(2.25,-4.1) 12(2.75,-4.1) 25(2.75,4.1) 26(2.25,4.1) 27(1.75,4.1) 28(1.25,4.1) 29(0.75,4.1) 30(0.25,4.1) 31(-0.25,4.1) 32(-0.75,4.1) 33(-1.25,4.1) 34(-1.75,4.1) 35(-2.25,4.1) 36(-2.75,4.1)
  rect 1.2x0.3 smd: 13(4.1,-2.75) 14(4.1,-2.25) 15(4.1,-1.75) 16(4.1,-1.25) 17(4.1,-0.75) 18(4.1,-0.25) 19(4.1,0.25) 20(4.1,0.75) 21(4.1,1.25) 22(4.1,1.75) 23(4.1,2.25) 24(4.1,2.75) 37(-4.1,2.75) 38(-4.1,2.25) 39(-4.1,1.75) 40(-4.1,1.25) 41(-4.1,0.75) 42(-4.1,0.25) 43(-4.1,-0.25) 44(-4.1,-0.75) 45(-4.1,-1.25) 46(-4.1,-1.75) 47(-4.1,-2.25) 48(-4.1,-2.75)
  rect 2x2 smd: EXP(0,0)
Top Overlay:
  circle w0.254: c-2.25,-2.25 r0.5
  lines w0.203: -3.2,-3.2 3.2,-3.2 3.2,3.2 -3.2,3.2 -3.2,-3.2
Top Paste:
  rectangle: -4.675,2.625 -3.525,2.875
  rectangle: -4.675,2.125 -3.525,2.375
  rectangle: -4.675,1.625 -3.525,1.875
  rectangle: -4.675,1.125 -3.525,1.375
  rectangle: -4.675,0.625 -3.525,0.875
  rectangle: -4.675,0.125 -3.525,0.375
  rectangle: -4.675,-0.375 -3.525,-0.125
  rectangle: -4.675,-0.875 -3.525,-0.625
  rectangle: -4.675,-1.375 -3.525,-1.125
  rectangle: -4.675,-1.875 -3.525,-1.625
  rectangle: -4.675,-2.375 -3.525,-2.125
  rectangle: -4.675,-2.875 -3.525,-2.625
  region: -2.625,-4.675 -2.625,-3.525 -2.875,-3.525 -2.875,-4.675
  region: -2.125,-4.675 -2.125,-3.525 -2.375,-3.525 -2.375,-4.675
  region: -1.625,-4.675 -1.625,-3.525 -1.875,-3.525 -1.875,-4.675
  region: -1.125,-4.675 -1.125,-3.525 -1.375,-3.525 -1.375,-4.675
  region: -0.625,-4.675 -0.625,-3.525 -0.875,-3.525 -0.875,-4.675
  region: -0.125,-4.675 -0.125,-3.525 -0.375,-3.525 -0.375,-4.675
  region: 0.375,-4.675 0.375,-3.525 0.125,-3.525 0.125,-4.675
  region: 0.875,-4.675 0.875,-3.525 0.625,-3.525 0.625,-4.675
  region: 1.375,-4.675 1.375,-3.525 1.125,-3.525 1.125,-4.675
  region: 1.875,-4.675 1.875,-3.525 1.625,-3.525 1.625,-4.675
  region: 2.375,-4.675 2.375,-3.525 2.125,-3.525 2.125,-4.675
  region: 2.875,-4.675 2.875,-3.525 2.625,-3.525 2.625,-4.675
  region: 4.675,-2.625 3.525,-2.625 3.525,-2.875 4.675,-2.875
  region: 4.675,-2.125 3.525,-2.125 3.525,-2.375 4.675,-2.375
  region: 4.675,-1.625 3.525,-1.625 3.525,-1.875 4.675,-1.875
  region: 4.675,-1.125 3.525,-1.125 3.525,-1.375 4.675,-1.375
  region: 4.675,-0.625 3.525,-0.625 3.525,-0.875 4.675,-0.875
  region: 4.675,-0.125 3.525,-0.125 3.525,-0.375 4.675,-0.375
  region: 4.675,0.375 3.525,0.375 3.525,0.125 4.675,0.125
  region: 4.675,0.875 3.525,0.875 3.525,0.625 4.675,0.625
  region: 4.675,1.375 3.525,1.375 3.525,1.125 4.675,1.125
  region: 4.675,1.875 3.525,1.875 3.525,1.625 4.675,1.625
  region: 4.675,2.375 3.525,2.375 3.525,2.125 4.675,2.125
  region: 4.675,2.875 3.525,2.875 3.525,2.625 4.675,2.625
  region: 2.625,4.675 2.625,3.525 2.875,3.525 2.875,4.675
  region: 2.125,4.675 2.125,3.525 2.375,3.525 2.375,4.675
  region: 1.625,4.675 1.625,3.525 1.875,3.525 1.875,4.675
  region: 1.125,4.675 1.125,3.525 1.375,3.525 1.375,4.675
  region: 0.625,4.675 0.625,3.525 0.875,3.525 0.875,4.675
  region: 0.125,4.675 0.125,3.525 0.375,3.525 0.375,4.675
  region: -0.375,4.675 -0.375,3.525 -0.125,3.525 -0.125,4.675
  region: -0.875,4.675 -0.875,3.525 -0.625,3.525 -0.625,4.675
  region: -1.375,4.675 -1.375,3.525 -1.125,3.525 -1.125,4.675
  region: -1.875,4.675 -1.875,3.525 -1.625,3.525 -1.625,4.675
  region: -2.375,4.675 -2.375,3.525 -2.125,3.525 -2.125,4.675
  region: -2.875,4.675 -2.875,3.525 -2.625,3.525 -2.625,4.675
  rectangle: -0.95,-0.95 0.95,0.95
Top Solder:
  rectangle: -4.725,2.575 -3.475,2.925
  rectangle: -4.725,2.075 -3.475,2.425
  rectangle: -4.725,1.575 -3.475,1.925
  rectangle: -4.725,1.075 -3.475,1.425
  rectangle: -4.725,0.575 -3.475,0.925
  rectangle: -4.725,0.075 -3.475,0.425
  rectangle: -4.725,-0.425 -3.475,-0.075
  rectangle: -4.725,-0.925 -3.475,-0.575
  rectangle: -4.725,-1.425 -3.475,-1.075
  rectangle: -4.725,-1.925 -3.475,-1.575
  rectangle: -4.725,-2.425 -3.475,-2.075
  rectangle: -4.725,-2.925 -3.475,-2.575
  region: -2.575,-4.725 -2.575,-3.475 -2.925,-3.475 -2.925,-4.725
  region: -2.075,-4.725 -2.075,-3.475 -2.425,-3.475 -2.425,-4.725
  region: -1.575,-4.725 -1.575,-3.475 -1.925,-3.475 -1.925,-4.725
  region: -1.075,-4.725 -1.075,-3.475 -1.425,-3.475 -1.425,-4.725
  region: -0.575,-4.725 -0.575,-3.475 -0.925,-3.475 -0.925,-4.725
  region: -0.075,-4.725 -0.075,-3.475 -0.425,-3.475 -0.425,-4.725
  region: 0.425,-4.725 0.425,-3.475 0.075,-3.475 0.075,-4.725
  region: 0.925,-4.725 0.925,-3.475 0.575,-3.475 0.575,-4.725
  region: 1.425,-4.725 1.425,-3.475 1.075,-3.475 1.075,-4.725
  region: 1.925,-4.725 1.925,-3.475 1.575,-3.475 1.575,-4.725
  region: 2.425,-4.725 2.425,-3.475 2.075,-3.475 2.075,-4.725
  region: 2.925,-4.725 2.925,-3.475 2.575,-3.475 2.575,-4.725
  region: 4.725,-2.575 3.475,-2.575 3.475,-2.925 4.725,-2.925
  region: 4.725,-2.075 3.475,-2.075 3.475,-2.425 4.725,-2.425
  region: 4.725,-1.575 3.475,-1.575 3.475,-1.925 4.725,-1.925
  region: 4.725,-1.075 3.475,-1.075 3.475,-1.425 4.725,-1.425
  region: 4.725,-0.575 3.475,-0.575 3.475,-0.925 4.725,-0.925
  region: 4.725,-0.075 3.475,-0.075 3.475,-0.425 4.725,-0.425
  region: 4.725,0.425 3.475,0.425 3.475,0.075 4.725,0.075
  region: 4.725,0.925 3.475,0.925 3.475,0.575 4.725,0.575
  region: 4.725,1.425 3.475,1.425 3.475,1.075 4.725,1.075
  region: 4.725,1.925 3.475,1.925 3.475,1.575 4.725,1.575
  region: 4.725,2.425 3.475,2.425 3.475,2.075 4.725,2.075
  region: 4.725,2.925 3.475,2.925 3.475,2.575 4.725,2.575
  region: 2.575,4.725 2.575,3.475 2.925,3.475 2.925,4.725
  region: 2.075,4.725 2.075,3.475 2.425,3.475 2.425,4.725
  region: 1.575,4.725 1.575,3.475 1.925,3.475 1.925,4.725
  region: 1.075,4.725 1.075,3.475 1.425,3.475 1.425,4.725
  region: 0.575,4.725 0.575,3.475 0.925,3.475 0.925,4.725
  region: 0.075,4.725 0.075,3.475 0.425,3.475 0.425,4.725
  region: -0.425,4.725 -0.425,3.475 -0.075,3.475 -0.075,4.725
  region: -0.925,4.725 -0.925,3.475 -0.575,3.475 -0.575,4.725
  region: -1.425,4.725 -1.425,3.475 -1.075,3.475 -1.075,4.725
  region: -1.925,4.725 -1.925,3.475 -1.575,3.475 -1.575,4.725
  region: -2.425,4.725 -2.425,3.475 -2.075,3.475 -2.075,4.725
  region: -2.925,4.725 -2.925,3.475 -2.575,3.475 -2.575,4.725
  rectangle: -1.05,-1.05 1.05,1.05
Mechanical 16:
  rectangle: -4.5,2.6 -3.45,2.9
  rectangle: -4.5,2.1 -3.45,2.4
  rectangle: -4.5,1.6 -3.45,1.9
  rectangle: -4.5,1.1 -3.45,1.4
  rectangle: -4.5,0.6 -3.45,0.9
  rectangle: -4.5,0.1 -3.45,0.4
  rectangle: -4.5,-0.4 -3.45,-0.1
  rectangle: -4.5,-0.9 -3.45,-0.6
  rectangle: -4.5,-1.4 -3.45,-1.1
  rectangle: -4.5,-1.9 -3.45,-1.6
  rectangle: -4.5,-2.4 -3.45,-2.1
  rectangle: -4.5,-2.9 -3.45,-2.6
  region: -2.6,-4.5 -2.6,-3.45 -2.9,-3.45 -2.9,-4.5
  region: -2.1,-4.5 -2.1,-3.45 -2.4,-3.45 -2.4,-4.5
  region: -1.6,-4.5 -1.6,-3.45 -1.9,-3.45 -1.9,-4.5
  region: -1.1,-4.5 -1.1,-3.45 -1.4,-3.45 -1.4,-4.5
  region: -0.6,-4.5 -0.6,-3.45 -0.9,-3.45 -0.9,-4.5
  region: -0.1,-4.5 -0.1,-3.45 -0.4,-3.45 -0.4,-4.5
  region: 0.4,-4.5 0.4,-3.45 0.1,-3.45 0.1,-4.5
  region: 0.9,-4.5 0.9,-3.45 0.6,-3.45 0.6,-4.5
  region: 1.4,-4.5 1.4,-3.45 1.1,-3.45 1.1,-4.5
  region: 1.9,-4.5 1.9,-3.45 1.6,-3.45 1.6,-4.5
  region: 2.4,-4.5 2.4,-3.45 2.1,-3.45 2.1,-4.5
  region: 2.9,-4.5 2.9,-3.45 2.6,-3.45 2.6,-4.5
  region: 4.5,-2.6 3.45,-2.6 3.45,-2.9 4.5,-2.9
  region: 4.5,-2.1 3.45,-2.1 3.45,-2.4 4.5,-2.4
  region: 4.5,-1.6 3.45,-1.6 3.45,-1.9 4.5,-1.9
  region: 4.5,-1.1 3.45,-1.1 3.45,-1.4 4.5,-1.4
  region: 4.5,-0.6 3.45,-0.6 3.45,-0.9 4.5,-0.9
  region: 4.5,-0.1 3.45,-0.1 3.45,-0.4 4.5,-0.4
  region: 4.5,0.4 3.45,0.4 3.45,0.1 4.5,0.1
  region: 4.5,0.9 3.45,0.9 3.45,0.6 4.5,0.6
  region: 4.5,1.4 3.45,1.4 3.45,1.1 4.5,1.1
  region: 4.5,1.9 3.45,1.9 3.45,1.6 4.5,1.6
  region: 4.5,2.4 3.45,2.4 3.45,2.1 4.5,2.1
  region: 4.5,2.9 3.45,2.9 3.45,2.6 4.5,2.6
  region: 2.6,4.5 2.6,3.45 2.9,3.45 2.9,4.5
  region: 2.1,4.5 2.1,3.45 2.4,3.45 2.4,4.5
  region: 1.6,4.5 1.6,3.45 1.9,3.45 1.9,4.5
  region: 1.1,4.5 1.1,3.45 1.4,3.45 1.4,4.5
  region: 0.6,4.5 0.6,3.45 0.9,3.45 0.9,4.5
  region: 0.1,4.5 0.1,3.45 0.4,3.45 0.4,4.5
  region: -0.4,4.5 -0.4,3.45 -0.1,3.45 -0.1,4.5
  region: -0.9,4.5 -0.9,3.45 -0.6,3.45 -0.6,4.5
  region: -1.4,4.5 -1.4,3.45 -1.1,3.45 -1.1,4.5
  region: -1.9,4.5 -1.9,3.45 -1.6,3.45 -1.6,4.5
  region: -2.4,4.5 -2.4,3.45 -2.1,3.45 -2.1,4.5
  region: -2.9,4.5 -2.9,3.45 -2.6,3.45 -2.6,4.5
  lines w0.203: -3.4,-3.4 3.4,-3.4 3.4,3.4 -3.4,3.4 -3.4,-3.4

## QSOP16 [mil]
pads (16):
  rect 15x50 smd: 1(-87.5,-102.36) 2(-62.5,-102.36) 3(-37.5,-102.36) 4(-12.5,-102.36) 5(12.5,-102.36) 6(37.5,-102.36) 7(62.5,-102.36) 8(87.5,-102.36) 9(87.5,102.36) 10(62.5,102.36) 11(37.5,102.36) 12(12.5,102.36) 13(-12.5,102.36) 14(-37.5,102.36) 15(-62.5,102.36) 16(-87.5,102.36)
Top Overlay:
  circle w0: c-67,-44 r11.04
Top Solder:
  rectangle: -96,-129 -79,-76
  rectangle: -94,-125 -81,-79
  rectangle: -71,-129 -54,-76
  rectangle: -69,-125 -56,-79
  rectangle: -46,-129 -29,-76
  rectangle: -44,-125 -31,-79
  rectangle: -21,-129 -4,-76
  rectangle: -19,-125 -6,-79
  rectangle: 4,-129 21,-76
  rectangle: 6,-125 19,-79
  rectangle: 29,-129 46,-76
  rectangle: 31,-125 44,-79
  rectangle: 54,-129 71,-76
  rectangle: 56,-125 69,-79
  rectangle: 79,-129 96,-76
  rectangle: 81,-125 94,-79
  region: 96,129 79,129 79,76 96,76
  region: 94,125 81,125 81,79 94,79
  region: 71,129 54,129 54,76 71,76
  region: 69,125 56,125 56,79 69,79
  region: 46,129 29,129 29,76 46,76
  region: 44,125 31,125 31,79 44,79
  region: 21,129 4,129 4,76 21,76
  region: 19,125 6,125 6,79 19,79
  region: -4,129 -21,129 -21,76 -4,76
  region: -6,125 -19,125 -19,79 -6,79
  region: -29,129 -46,129 -46,76 -29,76
  region: -31,125 -44,125 -44,79 -31,79
  region: -54,129 -71,129 -71,76 -54,76
  region: -56,125 -69,125 -69,79 -56,79
  region: -79,129 -96,129 -96,76 -79,76
  region: -81,125 -94,125 -94,79 -81,79
Mechanical 16:
  rectangle: -94.5,-122.05 -80.5,-76
  rectangle: -69.5,-122.05 -55.5,-76
  rectangle: -44.5,-122.05 -30.5,-76
  rectangle: -19.5,-122.05 -5.5,-76
  rectangle: 5.5,-122.05 19.5,-76
  rectangle: 30.5,-122.05 44.5,-76
  rectangle: 55.5,-122.05 69.5,-76
  rectangle: 80.5,-122.05 94.5,-76
  region: 94.5,122.05 80.5,122.05 80.5,76 94.5,76
  region: 69.5,122.05 55.5,122.05 55.5,76 69.5,76
  region: 44.5,122.05 30.5,122.05 30.5,76 44.5,76
  region: 19.5,122.05 5.5,122.05 5.5,76 19.5,76
  region: -5.5,122.05 -19.5,122.05 -19.5,76 -5.5,76
  region: -30.5,122.05 -44.5,122.05 -44.5,76 -30.5,76
  region: -55.5,122.05 -69.5,122.05 -69.5,76 -55.5,76
  region: -80.5,122.05 -94.5,122.05 -94.5,76 -80.5,76
  lines w8: -92.49,-71.8 92.49,-71.8 92.51,-55.12 92.49,72.8 -92.49,72.8 -92.49,-71.8

## SC70-5 [mm]
pads (5):
  rect 0.35x0.8 smd: 1(-0.65,-0.95) 2(0,-0.95) 3(0.65,-0.95) 4(0.65,0.95) 5(-0.65,0.95)
Top Overlay:
  lines w0.152: -1.022,-0.585 -1.022,0.585 ; -0.222,0.585 0.222,0.585 ; 1.022,-0.585 1.022,0.585
Top Paste:
  rectangle: -0.8,-1.325 -0.5,-0.575
  rectangle: -0.15,-1.325 0.15,-0.575
  rectangle: 0.5,-1.325 0.8,-0.575
  region: 0.8,1.325 0.5,1.325 0.5,0.575 0.8,0.575
  region: -0.5,1.325 -0.8,1.325 -0.8,0.575 -0.5,0.575
Top Solder:
  rectangle: -0.875,-1.4 -0.425,-0.5
  rectangle: -0.225,-1.4 0.225,-0.5
  rectangle: 0.425,-1.4 0.875,-0.5
  region: 0.875,1.4 0.425,1.4 0.425,0.5 0.875,0.5
  region: -0.425,1.4 -0.875,1.4 -0.875,0.5 -0.425,0.5
Mechanical 16:
  rectangle: -0.15,-1.2 0.15,-0.625
  rectangle: -0.8,-1.2 -0.5,-0.625
  rectangle: 0.5,-1.2 0.8,-0.625
  region: 0.8,1.2 0.5,1.2 0.5,0.625 0.8,0.625
  region: -0.5,1.2 -0.8,1.2 -0.8,0.625 -0.5,0.625
  lines w0.152: -1.022,-0.585 1.022,-0.585 ; -1.022,0.585 1.022,0.585

## SC70-6 [mm]
pads (6):
  rect 0.35x0.8 smd: 1(-0.65,-0.95) 2(0,-0.95) 3(0.65,-0.95) 4(0.65,0.95) 5(0,0.95) 6(-0.65,0.95)
Top Overlay:
  circle w0.051: c-0.762,-0.254 r0.051
  lines w0.152: -1.022,-0.585 -1.022,0.585 ; 1.022,-0.585 1.022,0.585
Top Paste:
  rectangle: -0.8,-1.325 -0.5,-0.575
  rectangle: -0.15,-1.325 0.15,-0.575
  rectangle: 0.5,-1.325 0.8,-0.575
  region: 0.8,1.325 0.5,1.325 0.5,0.575 0.8,0.575
  region: 0.15,1.325 -0.15,1.325 -0.15,0.575 0.15,0.575
  region: -0.5,1.325 -0.8,1.325 -0.8,0.575 -0.5,0.575
Top Solder:
  rectangle: -0.875,-1.4 -0.425,-0.5
  rectangle: -0.225,-1.4 0.225,-0.5
  rectangle: 0.425,-1.4 0.875,-0.5
  region: 0.875,1.4 0.425,1.4 0.425,0.5 0.875,0.5
  region: 0.225,1.4 -0.225,1.4 -0.225,0.5 0.225,0.5
  region: -0.425,1.4 -0.875,1.4 -0.875,0.5 -0.425,0.5
Mechanical 16:
  rectangle: -0.15,-1.2 0.15,-0.625
  rectangle: -0.8,-1.2 -0.5,-0.625
  rectangle: 0.5,-1.2 0.8,-0.625
  region: 0.8,1.2 0.5,1.2 0.5,0.625 0.8,0.625
  region: 0.15,1.2 -0.15,1.2 -0.15,0.625 0.15,0.625
  region: -0.5,1.2 -0.8,1.2 -0.8,0.625 -0.5,0.625
  lines w0.152: -1.022,-0.585 1.022,-0.585 ; -1.022,0.585 1.022,0.585

## SO8 [mm]
pads (8):
  rect 0.6x2.2 smd: 1(-1.905,-2.6) 2(-0.635,-2.6) 3(0.635,-2.6) 4(1.905,-2.6) 5(1.905,2.6) 6(0.635,2.6) 7(-0.635,2.6) 8(-1.905,2.6)
Mechanical 16:
  rectangle: -2.15,-3.1 -1.66,-2
  rectangle: -0.88,-3.1 -0.39,-2
  rectangle: 0.39,-3.1 0.88,-2
  rectangle: 1.66,-3.1 2.15,-2
  rectangle: 1.66,2 2.15,3.1
  rectangle: 0.39,2 0.88,3.1
  rectangle: -0.88,2 -0.39,3.1
  rectangle: -2.15,2 -1.66,3.1
  lines w0.203: -2.4,-1.4 -2.4,-1.9 2.4,-1.9 2.4,-1.4 ; -2.4,-1.4 -2.4,1.9 2.4,1.9 2.4,-1.4 ; -2.4,-1.4 2.4,-1.4

## SO8-COOL [mil]
pads (8):
  rect 24x60 smd: 1(-75,-108) 2(-25,-108) 3(25,-108) 4(75,-108) 5(75,108) 6(25,108) 7(-25,108) 8(-75,108)
Top Overlay:
  lines w6: -92.99,-70.98 92.99,-70.98 92.99,70.98 -92.99,70.98 -92.99,-70.98
Mechanical 16:
  rectangle: -82,-113 -68,-73
  rectangle: -32,-113 -18,-73
  rectangle: 18,-113 32,-73
  rectangle: 68,-113 82,-73
  rectangle: -82,73 -68,113
  rectangle: -32,73 -18,113
  rectangle: 18,73 32,113
  rectangle: 68,73 82,113
Mechanical 23:
  region: 0,0 10,0 10,10 0,10